# Altium schematic symbol library WEMOS_D1_MINI.SchLib: 1 symbol
Pins are listed as number, name and electrical type; pins without a type are passive.

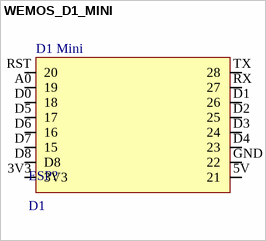
[diagram p0: symbol WEMOS_D1_MINI]

## WEMOS_D1_MINI
designator ESP?, comment D1
footprint WEMOS_D1_MINI
pins: 3V3, 5V 21, A0 19, D0 18, D1 26, D2 25, D3 24, D4 23, D5 17, D6 16, D7 15, D8, GND 22, RST 20, RX 27, TX 28
text: D1 Mini